# EAGLE library part MC14012BCPG (library ON Semiconductor_By_element14_Batch_1)
Dual 4-Input NAND Gates
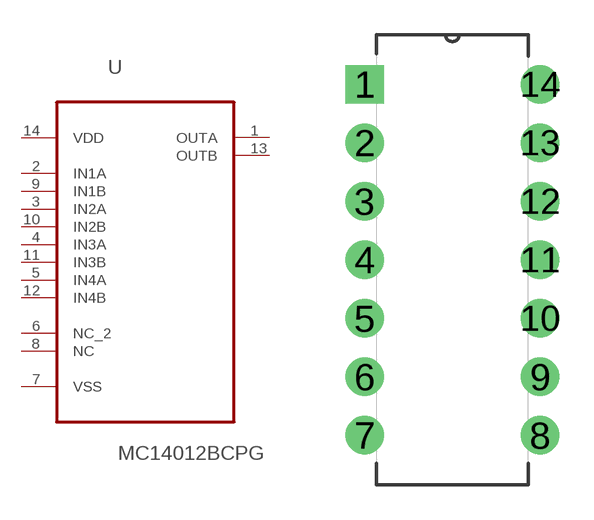
[diagram p201: symbol with the pads of DIP254P762X469-14; footprint DIP254P762X469-14]

Designator prefix U

## MC14012BCPG (MPN: MC14012BCPG; OC_FARNELL: 9664572; OC_NEWARK: 45J1017; P1I: o; PACKAGE: DIP-14; SUPPLIER: On Semiconductors)  [DIP254P762X469-14]
1  OUTA  out
2  IN1A  in
3  IN2A  in
4  IN3A  in
5  IN4A  in
6  NC_2  nc
7  VSS  pwr
8  NC  nc
9  IN1B  in
10  IN2B  in
11  IN3B  in
12  IN4B  in
13  OUTB  out
14  VDD  pwr

## Footprint DIP254P762X469-14 (pad centres in mm)
drill 1.118 square: 1 -7.62,15.24
drill 1.118: 2 -7.62,12.7; 3 -7.62,10.16; 4 -7.62,7.62; 5 -7.62,5.08; 6 -7.62,2.54; 7 -7.62,0; 8 0,0; 9 0,2.54; 10 0,5.08; 11 0,7.62; 12 0,10.16; 13 0,12.7; 14 0,15.24